# Altium schematic symbol library Tag103 Rev20.SCHLIB: 20 symbols
Pins are listed as number, name and electrical type; pins without a type are passive.

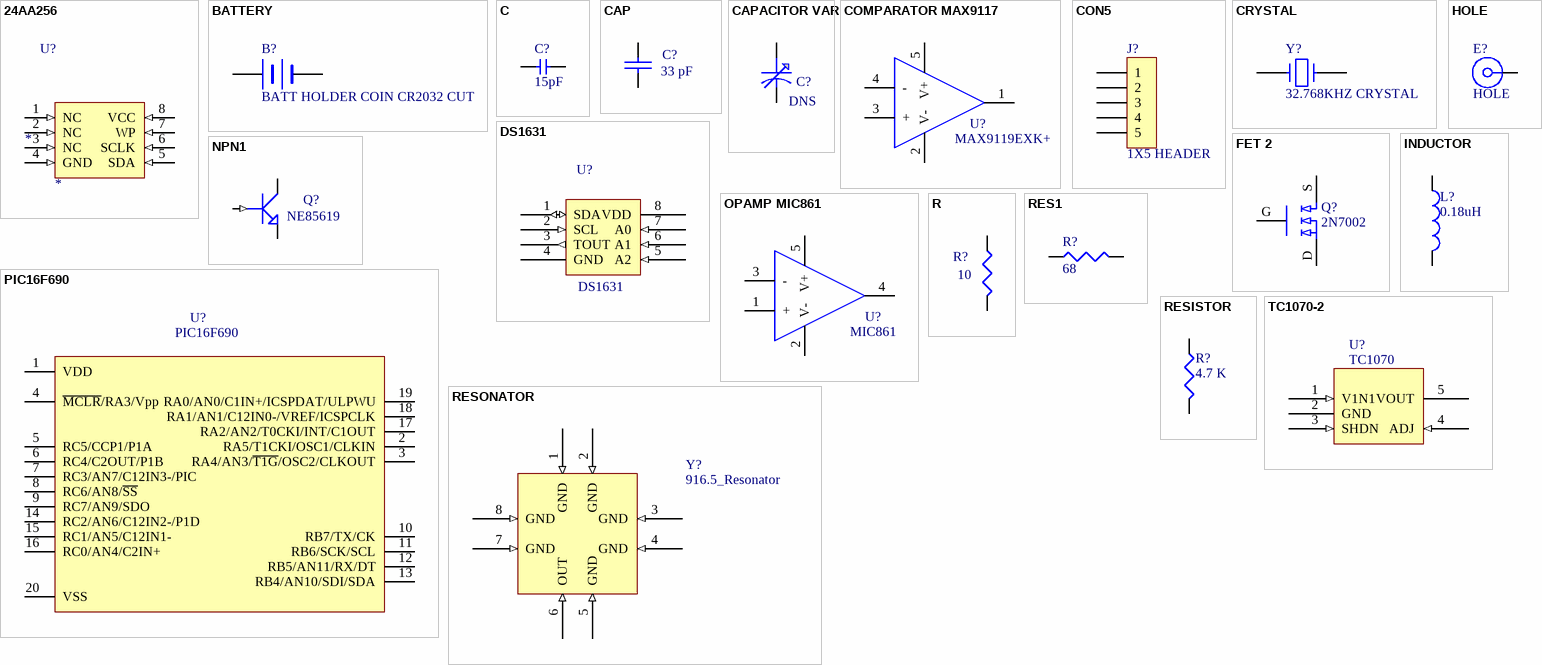
[diagram p0: symbols 24AA256 to TC1070-2]

## 24AA256
designator U?
ACTIVEWAVE-P/N: *; MFGR-P/N: *; MANUFACTURER: *; ITEM-DESCRIPTION: *; PARTVALUE: *
footprint SO8
pins: 1 NC (in), 2 NC (in), 3 NC (in), 4 GND (in), 5 SDA (in), 6 SCLK (in), 7 WP (in), 8 VCC (in)

## BATTERY
designator B?, comment BATT HOLDER COIN CR2032 CUT
Battery
footprint BATT HOLDER1 (SMT)
pins: 1 -, 2 +

## C
designator C?, comment 15pF
Text Field1: 10; Text Field2: 20
footprint CK05
footprint 0603
pins: 1, 2

## CAP
designator C?, comment 33 pF
Capacitor
footprint 0603
pins: 1, 2

## CAPACITOR VAR
designator C?, comment DNS
Text Field1: 20; Text Field2: 20
footprint 0603
pins: 1, 2

## COMPARATOR MAX9117
designator U?, comment MAX9119EXK+
footprint SC70
pins: 1 OUT, 2 V-, 3 +, 4 -, 5 V+

## CON5
designator J?, comment 1X5 HEADER
Connector
footprint CONN5
pins: 1, 2, 3, 4, 5

## CRYSTAL
designator Y?, comment 32.768KHZ CRYSTAL
Crystal
footprint CRYSTAL ABRACON ABS07 (Footprint not found)
pins: 1, 2

## DS1631
designator U?
Text Field1: 50; Text Field2: 50
footprint SO8 SMALL
pins: 1 SDA (io), 2 SCL (in), 3 TOUT (out), 4 GND (power), 5 A2 (in), 6 A1 (in), 7 A0 (in), 8 VDD (power)

## FET 2
designator Q?, comment 2N7002
pins: D, G, S

## HOLE
designator E?
PART_VALUE: 0.50DRL-P; Mfr: 0; Description: DRL 0.50,PAD 1.00-P; COMPHEIGHT: 0.000; SEC_PT_NBR: P_D0500P1000; PC: UNDEFINED; FP_SQ_AREA: 2.50; AUTO_INSERTABLE: N; FOLDER_TYPE: DISCRETES\MISC; Mfr Part Number: 0; PR_COST: 0; PR_STOCK: 0; IR_COST: 0; IR_STOCK: 0
footprint EH_D0500P1000
pins: 1

## INDUCTOR
designator L?, comment 0.18uH
Text Field1: 20; Text Field2: 40
footprint 0603
pins: 1, 2

## NPN1
designator Q?, comment NE85619
NPN Transistor
footprint 3 PIN ULTRA SUPER MINI MOLD
pins: B (in), C, E

## OPAMP MIC861
designator U?, comment MIC861
pins: 1 +, 2 V-, 3 -, 4 OUT, 5 V+

## PIC16F690
designator U?
pins: 1 VDD, 2 RA5/T1CKI/OSC1/CLKIN, 3 RA4/AN3/~{T1G}/OSC2/CLKOUT, 4 ~{MCLR}/RA3/Vpp, 5 RC5/CCP1/P1A, 6 RC4/C2OUT/P1B, 7 RC3/AN7/C12IN3-/PIC, 8 RC6/AN8/~{SS}, 9 RC7/AN9/SDO, 10 RB7/TX/CK, 11 RB6/SCK/SCL, 12 RB5/AN11/RX/DT, 13 RB4/AN10/SDI/SDA, 14 RC2/AN6/C12IN2-/P1D, 15 RC1/AN5/C12IN1-, 16 RC0/AN4/C2IN+, 17 RA2/AN2/T0CKI/INT/C1OUT, 18 RA1/AN1/C12IN0-/VREF/ICSPCLK, 19 RA0/AN0/C1IN+/ICSPDAT/ULPWU, 20 VSS

## R
designator R?, comment 10
Text Field1: 20; Text Field2: 30
footprint 0603
pins: 1, 2

## RES1
designator R?, comment 68
footprint 0603
pins: 1, 2

## RESISTOR
designator R?, comment 4.7 K
Text Field1: 20; Text Field2: 30
footprint 0603
pins: 1, 2

## RESONATOR
designator Y?, comment 916.5_Resonator
footprint RESONATOR
pins: 1 GND (in), 2 GND (in), 3 GND (in), 4 GND (in), 5 GND (in), 6 OUT (in), 7 GND (in), 8 GND (in)

## TC1070-2
designator U?, comment TC1070
Text Field1: 60; Text Field2: 50
footprint SOT23-5A
pins: 1 V1N1 (in), 2 GND (power), 3 SHDN (in), 4 ADJ (in), 5 VOUT (power)